# EAGLE library part 20-27 (library J-CylConn)
Amphenol: 97-3100A-20-27S RECEPTACLE WALL FLANGED 14POS AMPH20-27S 97-3100A-20-27P RECEPTACLE WALL FLANGED 14POS AMPH20-27P 97-3055-120-22002 ADAPTER SHELL SZ20-22 TO 1/2MNPT 97-3055-121-22002 ADAPTER SHELL SZ20-22 TO 1/2FNPT 97-3102A-20-27S RECEPTACLE BOX FLANGED 14POS AMPH20-27S 97-3102A-20-27P RECEPTACLE BOX FLANGED 14POS AMPH20-27P 9760-20 RECEPTICAL FREE HANGING CAP SZ20 97-3106A-20-27P PLUG FREE HANGING 14POS AMPH20-27P 97-3106A-20-27S PLUG FREE HANGING 14POS AMPH20-27S 9760-20P PLUG FREE HANGING CAP SZ20 9767-22-8 SHELL STRAIGHT CABLE CLAMP OD7/16 SZ20-22 9767-22-10 SHELL STRAIGHT CABLE CLAMP OD9/16 SZ20-22 9767-22-12 SHELL STRAIGHT CABLE CLAMP OD11/16 SZ20-22 MS3106F-20-27P is much like 97-3106A-20-27P /w a diff cable clamp and bushing, but its not clear what size cable OD
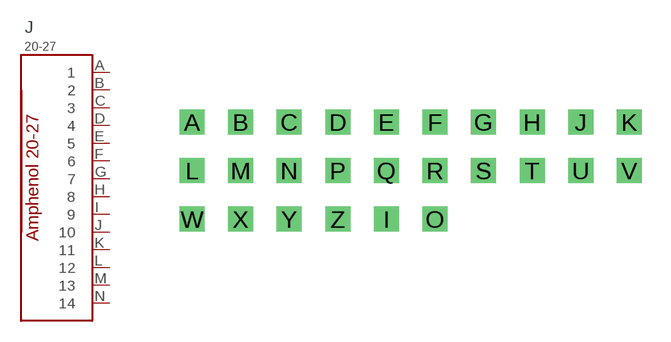
[diagram p0: symbol with the pads of AMPHENOL-97SERIES; footprint AMPHENOL-97SERIES]

Designator prefix J

## 20-27  [AMPHENOL-97SERIES]
A  1
B  2
C  3
D  4
E  5
F  6
G  7
H  8
I  9
J  10
K  11
L  12
M  13
N  14

## Footprint AMPHENOL-97SERIES (pad centres in mm)
Amphenol 97 Series first 26 Pin names are A-Z (watch out some skip O and I)
drill 0.8 square: A -10.16,6.35; B -7.62,6.35; C -5.08,6.35; D -2.54,6.35; E 0,6.35; F 2.54,6.35; G 5.08,6.35; H 7.62,6.35; I 0,1.27; J 10.16,6.35; K 12.7,6.35; L -10.16,3.81; M -7.62,3.81; N -5.08,3.81; O 2.54,1.27; P -2.54,3.81; Q 0,3.81; R 2.54,3.81; S 5.08,3.81; T 7.62,3.81; U 10.16,3.81; V 12.7,3.81; W -10.16,1.27; X -7.62,1.27; Y -5.08,1.27; Z -2.54,1.27